# Altium footprint library 749020010A.PcbLib: 1 footprints
Each footprint in its own frame and in the unit in brackets; x right, y up, seen from the top. Pads: shape width x height; smd on the part's side, far side on the other; paste and mask are expansions set on the pad; w line width, h text height; cw(c..) or ccw(c..) is an arc to the next point about the centre after c.
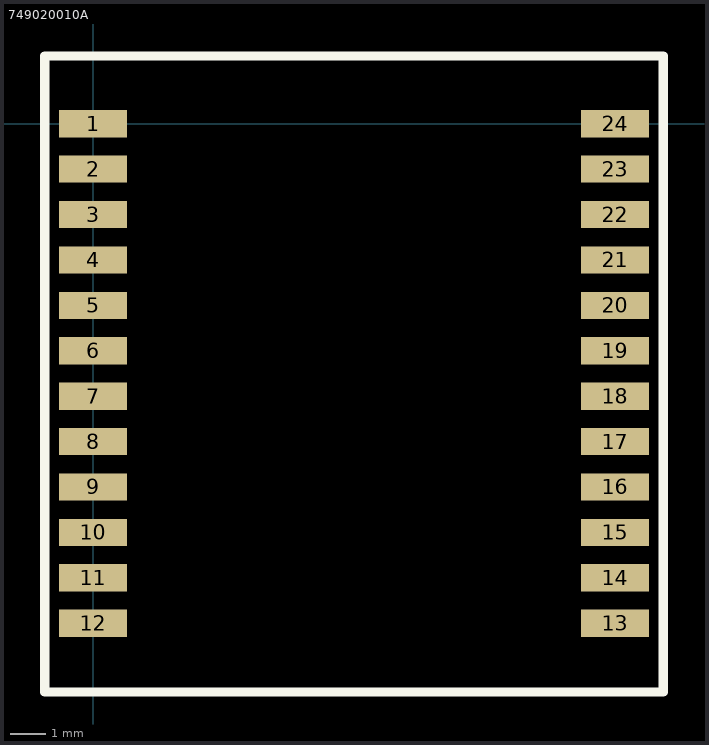
[diagram p0: the footprint, top view; thin cyan lines are the x and y axes]

## 749020010A [mm] "TRANSFORMER LAN 10/100/1000 SMD"
pads (24):
  rect 1.905x0.76 smd: 1(0,0) 2(0,-1.27) 3(0,-2.54) 4(0,-3.81) 5(0,-5.08) 6(0,-6.35) 7(0,-7.62) 8(0,-8.89) 9(0,-10.16) 10(0,-11.43) 11(0,-12.7) 12(0,-13.97) 13(14.605,-13.97) 14(14.605,-12.7) 15(14.605,-11.43) 16(14.605,-10.16) 17(14.605,-8.89) 18(14.605,-7.62) 19(14.605,-6.35) 20(14.605,-5.08) 21(14.605,-3.81) 22(14.605,-2.54) 23(14.605,-1.27) 24(14.605,0)
Top Overlay:
  lines w0.254: -1.35,-15.9 -1.35,1.9 15.95,1.9 15.95,-15.9 -1.35,-15.9
  text "." at -0.9,0.79 h0.38
3D body: height 6.5, standoff 0, extent -0.32,-15.75 14.92,1.75